# EAGLE library part ASUB-277-37TP25 (library ASUB-277-37TP25)
CONN D-SUB PLUG/RCPT 37P R/A SLD Source: Datasheet <https://datasheet.datasheetarchive.com/originals/dk/DKDS-12/220594.pdf>
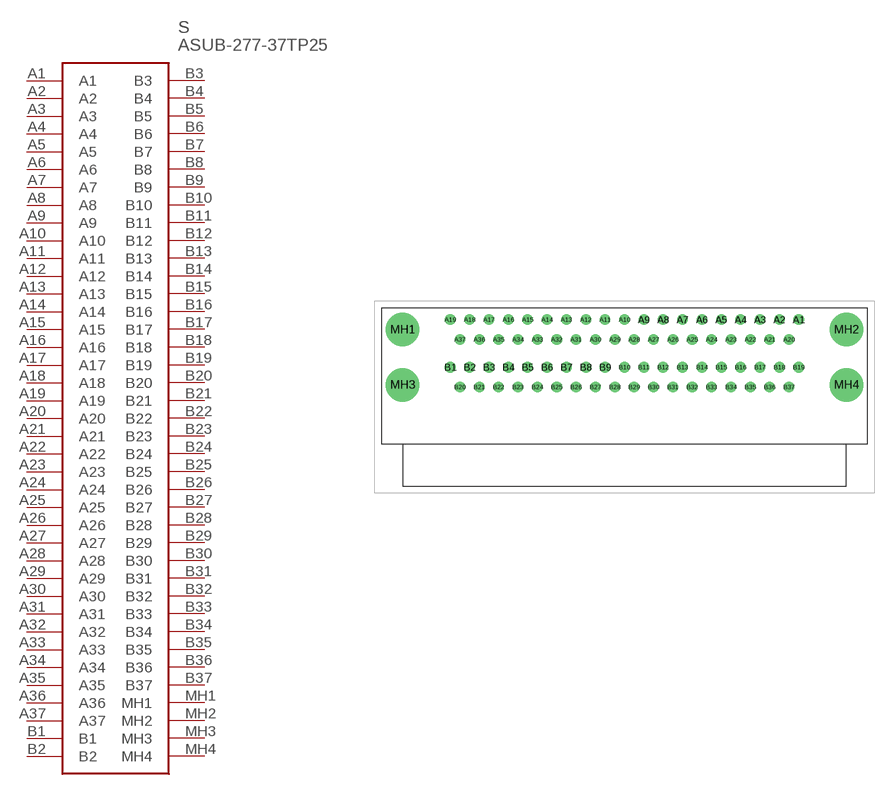
[diagram p0: symbol with the pads of ASUB27737TP25; footprint ASUB27737TP25]

Designator prefix S

## ASUB-277-37TP25 (DESCRIPTION: CONN D-SUB PLUG/RCPT 37P R/A SLD; HEIGHT: 31.55mm; MANUFACTURER_NAME: ASSMANN WSW components GmbH; MANUFACTURER_PART_NUMBER: ASUB-277-37TP25)  [ASUB27737TP25]
A1  A1
A2  A2
A3  A3
A4  A4
A5  A5
A6  A6
A7  A7
A8  A8
A9  A9
A10  A10
A11  A11
A12  A12
A13  A13
A14  A14
A15  A15
A16  A16
A17  A17
A18  A18
A19  A19
A20  A20
A21  A21
A22  A22
A23  A23
A24  A24
A25  A25
A26  A26
A27  A27
A28  A28
A29  A29
A30  A30
A31  A31
A32  A32
A33  A33
A34  A34
A35  A35
A36  A36
A37  A37
B1  B1
B2  B2
B3  B3
B4  B4
B5  B5
B6  B6
B7  B7
B8  B8
B9  B9
B10  B10
B11  B11
B12  B12
B13  B13
B14  B14
B15  B15
B16  B16
B17  B17
B18  B18
B19  B19
B20  B20
B21  B21
B22  B22
B23  B23
B24  B24
B25  B25
B26  B26
B27  B27
B28  B28
B29  B29
B30  B30
B31  B31
B32  B32
B33  B33
B34  B34
B35  B35
B36  B36
B37  B37
MH1  MH1
MH2  MH2
MH3  MH3
MH4  MH4

## Footprint ASUB27737TP25 (pad centres in mm)
ASUB-277-37TP25-2
drill 1 pad 1.5: A1 49.86,0; A2 47.09,0; A3 44.32,0; A4 41.55,0; A5 38.78,0; A6 36.01,0; A7 33.24,0; A8 30.47,0; A9 27.7,0; A10 24.93,0; A11 22.16,0; A12 19.39,0; A13 16.62,0; A14 13.85,0; A15 11.08,0; A16 8.31,0; A17 5.54,0; A18 2.77,0; A19 0,0; A20 48.475,-2.84; A21 45.705,-2.84; A22 42.935,-2.84; A23 40.165,-2.84; A24 37.395,-2.84; A25 34.625,-2.84; A26 31.855,-2.84; A27 29.085,-2.84; A28 26.315,-2.84; A29 23.545,-2.84; A30 20.775,-2.84; A31 18.005,-2.84; A32 15.235,-2.84; A33 12.465,-2.84; A34 9.695,-2.84; A35 6.925,-2.84; A36 4.155,-2.84; A37 1.385,-2.84; B1 0,-6.8; B2 2.77,-6.8; B3 5.54,-6.8; B4 8.31,-6.8; B5 11.08,-6.8; B6 13.85,-6.8; B7 16.62,-6.8; B8 19.39,-6.8; B9 22.16,-6.8; B10 24.93,-6.8; B11 27.7,-6.8; B12 30.47,-6.8; B13 33.24,-6.8; B14 36.01,-6.8; B15 38.78,-6.8; B16 41.55,-6.8; B17 44.32,-6.8; B18 47.09,-6.8; B19 49.86,-6.8; B20 1.385,-9.64; B21 4.155,-9.64; B22 6.925,-9.64; B23 9.695,-9.64; B24 12.465,-9.64; B25 15.235,-9.64; B26 18.005,-9.64; B27 20.775,-9.64; B28 23.545,-9.64; B29 26.315,-9.64; B30 29.085,-9.64; B31 31.855,-9.64; B32 34.625,-9.64; B33 37.395,-9.64; B34 40.165,-9.64; B35 42.935,-9.64; B36 45.705,-9.64; B37 48.475,-9.64
drill 3.2 pad 4.8: MH1 -6.82,-1.42; MH2 56.68,-1.42; MH3 -6.82,-9.32; MH4 56.68,-9.32